# EAGLE library part WE-MLS-3WAY (library Wurth_Elektronik_Passive_rev15c)
Multiline EMI Suppression Ferrite Characteristics High impedance common mode inductor with 2x2 windings made by PCB line connection High rated current with typ. 4 A Broadband filtering because of the NiZn-ferrite core RF common mode inductor for 2, 3 or 4 lines in one component Compact size Operating temperature: –25 ºC to +125 ºC Custom designs on request With the appropriate layout (see below) the impedance (i.e. 4 windings) respectively the current (parallel circuit) could be increased Applications Perfect suitable for absorption of common or differential mode interferences in the field of EMC High-current DC output filters of power supplies e.g. battery chargers, industrial power supplies With one turn the component performes like a 3 or 4 times common mode choke for the signal 4-line sensor application <http://katalog.we-online.de/media/images/eisos/FeMLS_pf2.jpg> Details see: http://katalog.we-online.de/en/pbs/WE-MLS? Updated by Dan Xu 2014-07-08 2014 (C) Wurth Elektronik
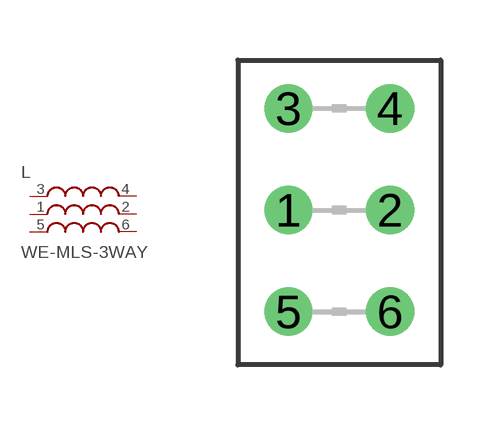
[diagram p19: symbol with the pads of WE-3WAY_74273001; footprint WE-3WAY_74273001]

Designator prefix L

## WE-MLS-3WAY_74273001  [WE-3WAY_74273001]
1  6  pas
2  3  pas
3  1  pas
4  2  pas
5  5  pas
6  4  pas

## Footprint WE-3WAY_74273001 (pad centres in mm)
Multiline EMI Suppression Ferrite WE-MLS
drill 0.7: 1 -1.27,0; 2 1.27,0; 3 -1.27,2.54; 4 1.27,2.54; 5 -1.27,-2.54; 6 1.27,-2.54